# Altium schematic symbol library HCM1A0805V2-470-R.SchLib: 1 symbol
Pins are listed as number, name and electrical type; pins without a type are passive.

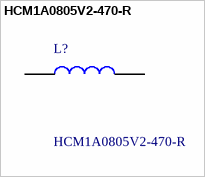
[diagram p0: symbol HCM1A0805V2-470-R]

## HCM1A0805V2-470-R
designator L?
47 H Shielded Inductor 2.5 A 137mOhm Max Nonstandard; Manufacturer_Name: Eaton; Geometry.Height: 5.4mm; TME Electronic Components Part Number: *; TME Electronic Components Price/Stock: *; Manufacturer_Part_Number: HCM1A0805V2-470-R; Datasheet Link: https://www.eaton.com/content/dam/eaton/products/electronic-components/resources/data-sheet/eaton-hcm1a0805v2-automotive-power-inductor-data-sheet.pdf
footprint INDPM8180X540N
pins: 1, 2